# Altium schematic symbol library GJ24.SchLib: 15 symbols
Pins are listed as number, name and electrical type; pins without a type are passive.

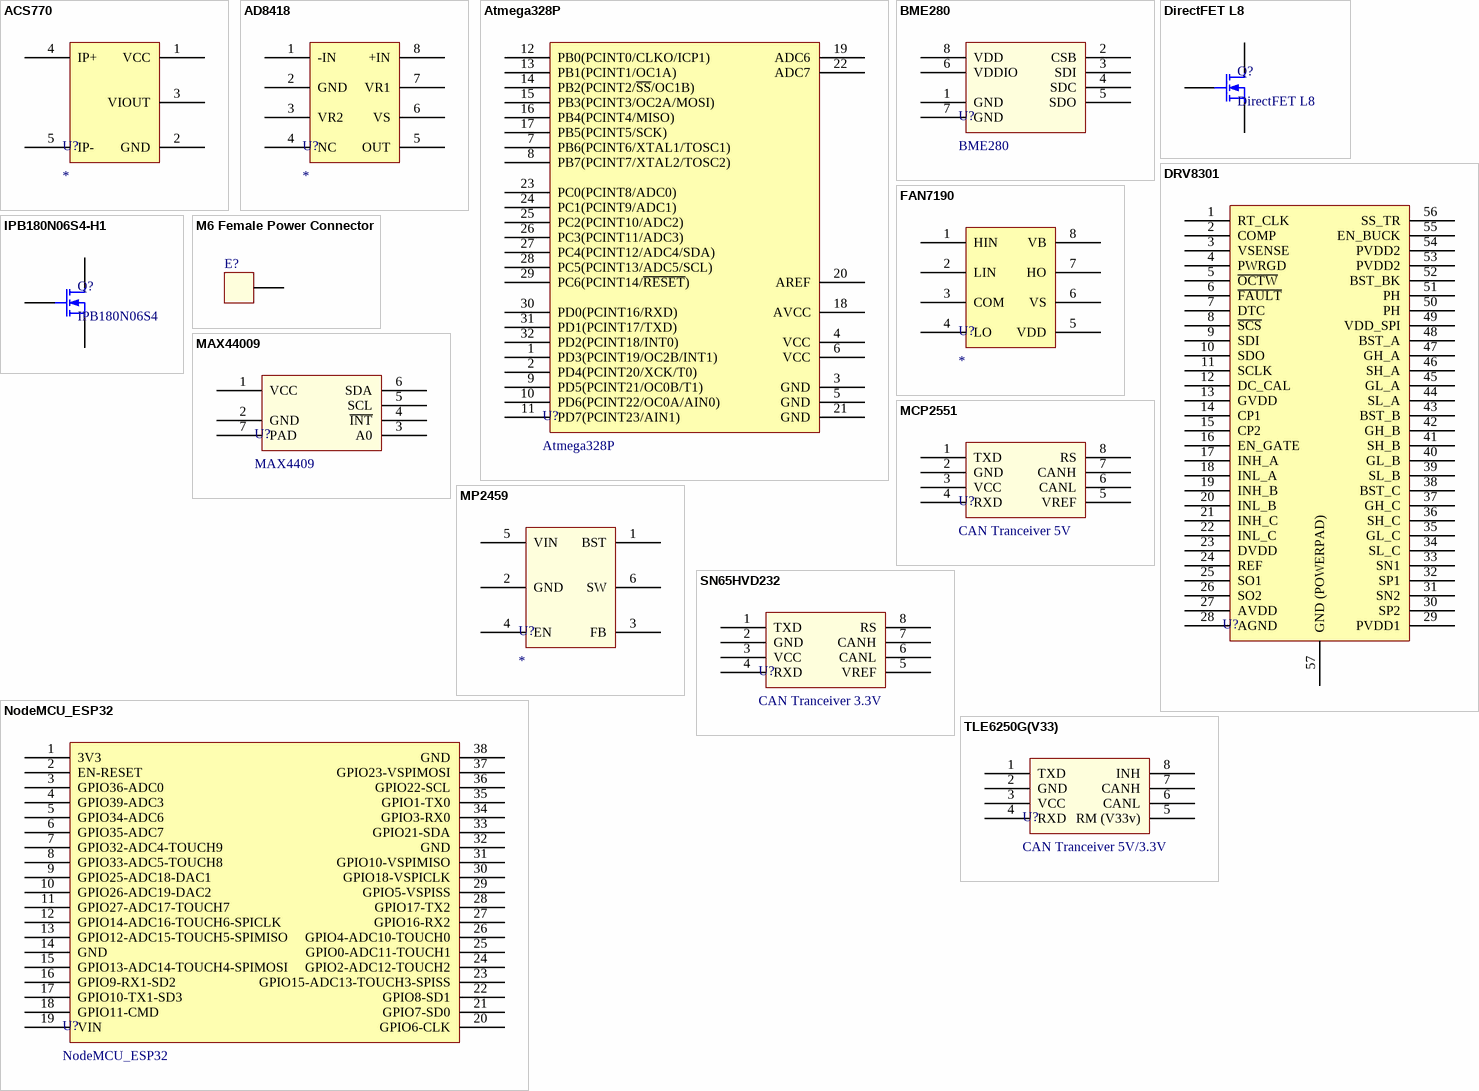
[diagram p0: symbols ACS770 to TLE6250G(V33)]

## ACS770
designator U?
footprint ALLEGRO PFF
pins: 1 VCC, 2 GND, 3 VIOUT, 4 IP+, 5 IP-

## AD8418
designator U?
footprint ANALOG MSOP-8 RM-8
pins: 1 -IN, 2 GND, 3 VR2, 4 NC, 5 OUT, 6 VS, 7 VR1, 8 +IN

## Atmega328P
designator U?
footprint ST LQFP-32 7X7MM (LQFP, 32-Leads, Body 7.00x7.00mm, Pitch 0.80mm, IPC Medium Density)
pins: 1 PD3(PCINT19/OC2B/INT1), 2 PD4(PCINT20/XCK/T0), 3 GND, 4 VCC, 5 GND, 6 VCC, 7 PB6(PCINT6/XTAL1/TOSC1), 8 PB7(PCINT7/XTAL2/TOSC2), 9 PD5(PCINT21/OC0B/T1), 10 PD6(PCINT22/OC0A/AIN0), 11 PD7(PCINT23/AIN1), 12 PB0(PCINT0/CLKO/ICP1), 13 PB1(PCINT1/OC1A), 14 PB2(PCINT2/~{SS}/OC1B), 15 PB3(PCINT3/OC2A/MOSI), 16 PB4(PCINT4/MISO), 17 PB5(PCINT5/SCK), 18 AVCC, 19 ADC6, 20 AREF, 21 GND, 22 ADC7, 23 PC0(PCINT8/ADC0), 24 PC1(PCINT9/ADC1), 25 PC2(PCINT10/ADC2), 26 PC3(PCINT11/ADC3), 27 PC4(PCINT12/ADC4/SDA), 28 PC5(PCINT13/ADC5/SCL), 29 PC6(PCINT14/~{RESET}), 30 PD0(PCINT16/RXD), 31 PD1(PCINT17/TXD), 32 PD2(PCINT18/INT0)

## BME280
designator U?
footprint BME280 (Bosch BME280 digital pressure sensor, humidity sensor, and temperature sensor)
pins: 1 GND, 2 CSB, 3 SDI, 4 SDC, 5 SDO, 6 VDDIO, 7 GND, 8 VDD

## DirectFET L8
designator Q?
footprint DirectFET L8
pins: 1 D, 2 D, 3 D, 4 G, 5 S, 6 S, 7 S, 8 S, 9 S, 10 S, 11 S, 12 S, 13 D, 14 D, 15 D

## DRV8301
designator U?
footprint TI HTSSOP-56 DCA (SOP, 56-Leads, Body 14.00x6.10mm, Pitch 0.50mm, Thermal Pad 4.70x3.61mm, IPC Medium Density)
pins: 1 RT_CLK, 2 COMP, 3 VSENSE, 4 PWRGD, 5 ~{OCTW}, 6 ~{FAULT}, 7 DTC, 8 ~{SCS}, 9 SDI, 10 SDO, 11 SCLK, 12 DC_CAL, 13 GVDD (power), 14 CP1 (power), 15 CP2 (power), 16 EN_GATE, 17 INH_A, 18 INL_A, 19 INH_B, 20 INL_B, 21 INH_C, 22 INL_C, 23 DVDD (power), 24 REF, 25 SO1, 26 SO2, 27 AVDD (power), 28 AGND (power), 29 PVDD1 (power), 30 SP2, 31 SN2, 32 SP1, 33 SN1, 34 SL_C, 35 GL_C, 36 SH_C, 37 GH_C, 38 BST_C, 39 SL_B, 40 GL_B, 41 SH_B, 42 GH_B, 43 BST_B, 44 SL_A, 45 GL_A, 46 SH_A, 47 GH_A, 48 BST_A, 49 VDD_SPI, 50 PH, 51 PH, 52 BST_BK, 53 PVDD2, 54 PVDD2, 55 EN_BUCK, 56 SS_TR, 57 GND (POWERPAD) (power)

## FAN7190
designator U?
footprint ON SEMI SO-8 (SOIC, 8-Leads, Body 4.90x3.90mm, Pitch 1.27mm, IPC Medium Density)
pins: 1 HIN, 2 LIN, 3 COM, 4 LO, 5 VDD, 6 VS, 7 HO, 8 VB

## IPB180N06S4-H1
designator Q?, comment IPB180N06S4
footprint INFINEON TO-263-7 (D2-PAK, 7-Pads, Body 7.82x8.52mm (max), IPC Medium Density)
pins: 1 G, 2 S, 3 S, 5 S, 6 S, 7 S, 8 D

## M6 Female Power Connector
designator E?
7461097, REDCUBE PRESS-FIT with internal thread, full plain WP-BUFU, M6 - 6.5 mm; Pin Number: 16; Rated Current: 240 A; Thread Length: 6.5 mm; ComponentLink1Description: Manufacturer; ComponentLink1URL: http://www.we-online.de; ComponentLink2Description: Datasheet; ComponentLink2URL: http://katalog.we-online.de/em/datasheet/7461097.pdf; Part Number: 7461097; Published Date: March  2017; Publisher: Wurth Elektronik; Thread: M6
footprint 7461097_Chemical Surface (M6, blind 6.5mm)
footprint REDCUBE 16pin (M5, blind 4mm, HAL surface)
pins: 1

## MAX44009
designator U?, comment MAX4409
footprint LT DFN-6 2x2mm DC6 RF (DFN, 6-Leads, Body 2.00x2.00mm, Pitch 0.50mm, Thermal Pad 0.61x1.42mm, IPC High Density)
pins: 1 VCC, 2 GND, 3 A0, 4 ~{INT}, 5 SCL, 6 SDA, 7 PAD

## MCP2551
designator U?, comment CAN Tranceiver 5V
footprint MICROCHIP SOIC-8 150mil Wide (SOIC, 8-Leads, Body 4.90x3.90mm, Pitch 1.27mm, IPC Medium Density)
pins: 1 TXD, 2 GND, 3 VCC, 4 RXD, 5 VREF, 6 CANL, 7 CANH, 8 RS

## MP2459
designator U?
footprint ATMEL SOT-23-6 6ST1 (SOT23, 6-Leads, Body 2.90x2.80mm, Pitch 0.95mm, IPC Medium Density)
pins: 1 BST, 2 GND, 3 FB, 4 EN, 5 VIN, 6 SW

## NodeMCU_ESP32
designator U?
footprint NodeMCU
pins: 1 3V3, 2 EN-RESET, 3 GPIO36-ADC0, 4 GPIO39-ADC3, 5 GPIO34-ADC6, 6 GPIO35-ADC7, 7 GPIO32-ADC4-TOUCH9, 8 GPIO33-ADC5-TOUCH8, 9 GPIO25-ADC18-DAC1, 10 GPIO26-ADC19-DAC2, 11 GPIO27-ADC17-TOUCH7, 12 GPIO14-ADC16-TOUCH6-SPICLK, 13 GPIO12-ADC15-TOUCH5-SPIMISO, 14 GND, 15 GPIO13-ADC14-TOUCH4-SPIMOSI, 16 GPIO9-RX1-SD2, 17 GPIO10-TX1-SD3, 18 GPIO11-CMD, 19 VIN, 20 GPIO6-CLK, 21 GPIO7-SD0, 22 GPIO8-SD1, 23 GPIO15-ADC13-TOUCH3-SPISS, 24 GPIO2-ADC12-TOUCH2, 25 GPIO0-ADC11-TOUCH1, 26 GPIO4-ADC10-TOUCH0, 27 GPIO16-RX2, 28 GPIO17-TX2, 29 GPIO5-VSPISS, 30 GPIO18-VSPICLK, 31 GPIO10-VSPIMISO, 32 GND, 33 GPIO21-SDA, 34 GPIO3-RX0, 35 GPIO1-TX0, 36 GPIO22-SCL, 37 GPIO23-VSPIMOSI, 38 GND

## SN65HVD232
designator U?, comment CAN Tranceiver 3.3V
footprint MICROCHIP SOIC-8 150mil Wide (SOIC, 8-Leads, Body 4.90x3.90mm, Pitch 1.27mm, IPC Medium Density)
pins: 1 TXD, 2 GND, 3 VCC, 4 RXD, 5 VREF, 6 CANL, 7 CANH, 8 RS

## TLE6250G(V33)
designator U?, comment CAN Tranceiver 5V/3.3V
footprint MICROCHIP SOIC-8 150mil Wide (SOIC, 8-Leads, Body 4.90x3.90mm, Pitch 1.27mm, IPC Medium Density)
pins: 1 TXD, 2 GND, 3 VCC, 4 RXD, 5 RM (V33v), 6 CANL, 7 CANH, 8 INH